# Altium schematic symbol library Res_Vishay_CRCW251210K0FKEG_10kOhm.SchLib: 1 symbol
Pins are listed as number, name and electrical type; pins without a type are passive.

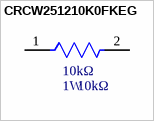
[diagram p0: symbol CRCW251210K0FKEG]

## CRCW251210K0FKEG
designator 10kΩ  (value not drawn)
pins: 1, 2
text: 1W